# Altium schematic symbol library SCH - MCU - INFINEON - INFINEON S6E2CC9JHXXV2 LQFP-176.SchLib: 1 symbol
Pins are listed as number, name and electrical type; pins without a type are passive.

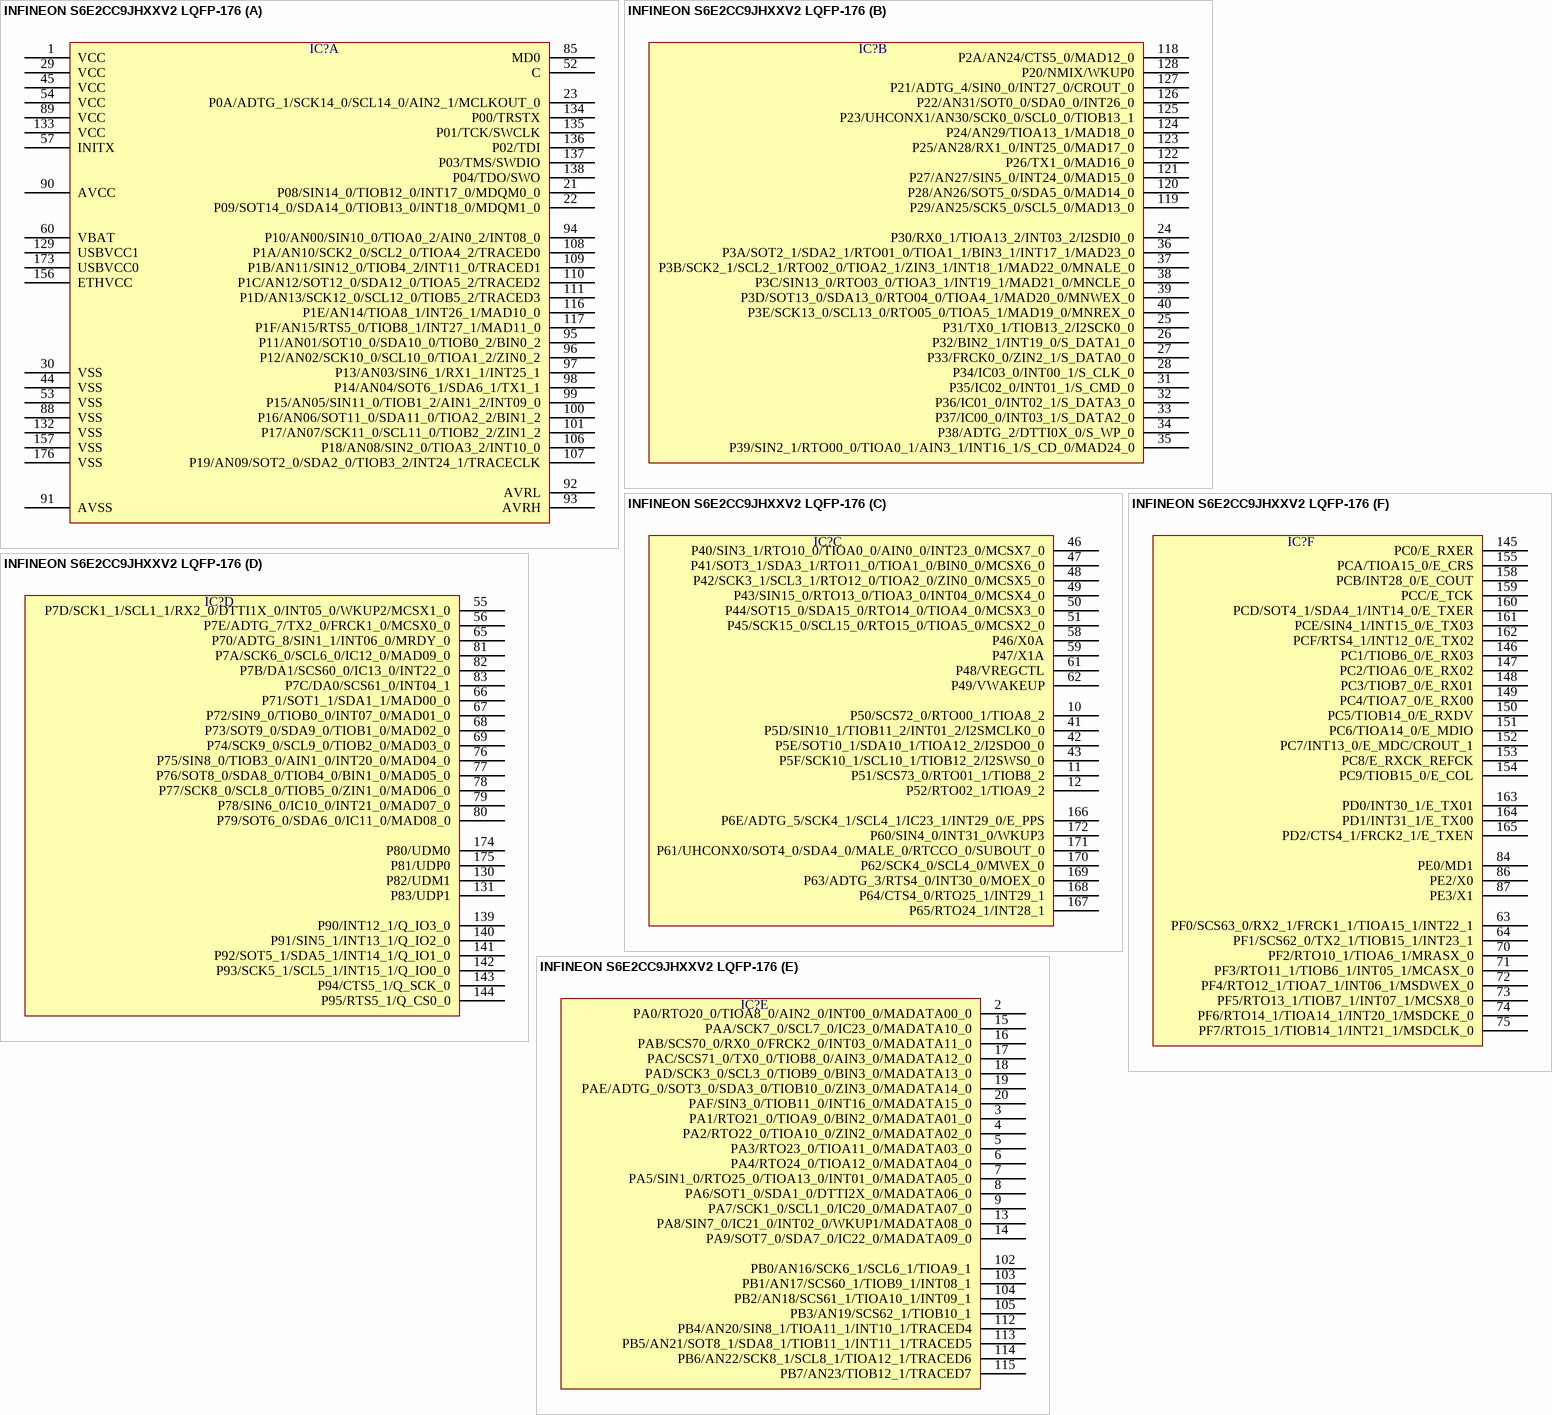
[diagram p0: symbol INFINEON S6E2CC9JHXXV2 LQFP-176]

## INFINEON S6E2CC9JHXXV2 LQFP-176
designator IC?  (value not drawn)
part A pins: 1 VCC, 21 P08/SIN14_0/TIOB12_0/INT17_0/MDQM0_0, 22 P09/SOT14_0/SDA14_0/TIOB13_0/INT18_0/MDQM1_0, 23 P0A/ADTG_1/SCK14_0/SCL14_0/AIN2_1/MCLKOUT_0, 29 VCC, 30 VSS, 44 VSS, 45 VCC, 52 C, 53 VSS, 54 VCC, 57 INITX, 60 VBAT, 85 MD0, 88 VSS, 89 VCC, 90 AVCC, 91 AVSS, 92 AVRL, 93 AVRH, 94 P10/AN00/SIN10_0/TIOA0_2/AIN0_2/INT08_0, 95 P11/AN01/SOT10_0/SDA10_0/TIOB0_2/BIN0_2, 96 P12/AN02/SCK10_0/SCL10_0/TIOA1_2/ZIN0_2, 97 P13/AN03/SIN6_1/RX1_1/INT25_1, 98 P14/AN04/SOT6_1/SDA6_1/TX1_1, 99 P15/AN05/SIN11_0/TIOB1_2/AIN1_2/INT09_0, 100 P16/AN06/SOT11_0/SDA11_0/TIOA2_2/BIN1_2, 101 P17/AN07/SCK11_0/SCL11_0/TIOB2_2/ZIN1_2, 106 P18/AN08/SIN2_0/TIOA3_2/INT10_0, 107 P19/AN09/SOT2_0/SDA2_0/TIOB3_2/INT24_1/TRACECLK, 108 P1A/AN10/SCK2_0/SCL2_0/TIOA4_2/TRACED0, 109 P1B/AN11/SIN12_0/TIOB4_2/INT11_0/TRACED1, 110 P1C/AN12/SOT12_0/SDA12_0/TIOA5_2/TRACED2, 111 P1D/AN13/SCK12_0/SCL12_0/TIOB5_2/TRACED3, 116 P1E/AN14/TIOA8_1/INT26_1/MAD10_0, 117 P1F/AN15/RTS5_0/TIOB8_1/INT27_1/MAD11_0, 129 USBVCC1, 132 VSS, 133 VCC, 134 P00/TRSTX, 135 P01/TCK/SWCLK, 136 P02/TDI, 137 P03/TMS/SWDIO, 138 P04/TDO/SWO, 156 ETHVCC, 157 VSS, 173 USBVCC0, 176 VSS
part B pins: 24 P30/RX0_1/TIOA13_2/INT03_2/I2SDI0_0, 25 P31/TX0_1/TIOB13_2/I2SCK0_0, 26 P32/BIN2_1/INT19_0/S_DATA1_0, 27 P33/FRCK0_0/ZIN2_1/S_DATA0_0, 28 P34/IC03_0/INT00_1/S_CLK_0, 31 P35/IC02_0/INT01_1/S_CMD_0, 32 P36/IC01_0/INT02_1/S_DATA3_0, 33 P37/IC00_0/INT03_1/S_DATA2_0, 34 P38/ADTG_2/DTTI0X_0/S_WP_0, 35 P39/SIN2_1/RTO00_0/TIOA0_1/AIN3_1/INT16_1/S_CD_0/MAD24_0, 36 P3A/SOT2_1/SDA2_1/RTO01_0/TIOA1_1/BIN3_1/INT17_1/MAD23_0, 37 P3B/SCK2_1/SCL2_1/RTO02_0/TIOA2_1/ZIN3_1/INT18_1/MAD22_0/MNALE_0, 38 P3C/SIN13_0/RTO03_0/TIOA3_1/INT19_1/MAD21_0/MNCLE_0, 39 P3D/SOT13_0/SDA13_0/RTO04_0/TIOA4_1/MAD20_0/MNWEX_0, 40 P3E/SCK13_0/SCL13_0/RTO05_0/TIOA5_1/MAD19_0/MNREX_0, 118 P2A/AN24/CTS5_0/MAD12_0, 119 P29/AN25/SCK5_0/SCL5_0/MAD13_0, 120 P28/AN26/SOT5_0/SDA5_0/MAD14_0, 121 P27/AN27/SIN5_0/INT24_0/MAD15_0, 122 P26/TX1_0/MAD16_0, 123 P25/AN28/RX1_0/INT25_0/MAD17_0, 124 P24/AN29/TIOA13_1/MAD18_0, 125 P23/UHCONX1/AN30/SCK0_0/SCL0_0/TIOB13_1, 126 P22/AN31/SOT0_0/SDA0_0/INT26_0, 127 P21/ADTG_4/SIN0_0/INT27_0/CROUT_0, 128 P20/NMIX/WKUP0
part C pins: 10 P50/SCS72_0/RTO00_1/TIOA8_2, 11 P51/SCS73_0/RTO01_1/TIOB8_2, 12 P52/RTO02_1/TIOA9_2, 41 P5D/SIN10_1/TIOB11_2/INT01_2/I2SMCLK0_0, 42 P5E/SOT10_1/SDA10_1/TIOA12_2/I2SDO0_0, 43 P5F/SCK10_1/SCL10_1/TIOB12_2/I2SWS0_0, 46 P40/SIN3_1/RTO10_0/TIOA0_0/AIN0_0/INT23_0/MCSX7_0, 47 P41/SOT3_1/SDA3_1/RTO11_0/TIOA1_0/BIN0_0/MCSX6_0, 48 P42/SCK3_1/SCL3_1/RTO12_0/TIOA2_0/ZIN0_0/MCSX5_0, 49 P43/SIN15_0/RTO13_0/TIOA3_0/INT04_0/MCSX4_0, 50 P44/SOT15_0/SDA15_0/RTO14_0/TIOA4_0/MCSX3_0, 51 P45/SCK15_0/SCL15_0/RTO15_0/TIOA5_0/MCSX2_0, 58 P46/X0A, 59 P47/X1A, 61 P48/VREGCTL, 62 P49/VWAKEUP, 166 P6E/ADTG_5/SCK4_1/SCL4_1/IC23_1/INT29_0/E_PPS, 167 P65/RTO24_1/INT28_1, 168 P64/CTS4_0/RTO25_1/INT29_1, 169 P63/ADTG_3/RTS4_0/INT30_0/MOEX_0, 170 P62/SCK4_0/SCL4_0/MWEX_0, 171 P61/UHCONX0/SOT4_0/SDA4_0/MALE_0/RTCCO_0/SUBOUT_0, 172 P60/SIN4_0/INT31_0/WKUP3
part D pins: 55 P7D/SCK1_1/SCL1_1/RX2_0/DTTI1X_0/INT05_0/WKUP2/MCSX1_0, 56 P7E/ADTG_7/TX2_0/FRCK1_0/MCSX0_0, 65 P70/ADTG_8/SIN1_1/INT06_0/MRDY_0, 66 P71/SOT1_1/SDA1_1/MAD00_0, 67 P72/SIN9_0/TIOB0_0/INT07_0/MAD01_0, 68 P73/SOT9_0/SDA9_0/TIOB1_0/MAD02_0, 69 P74/SCK9_0/SCL9_0/TIOB2_0/MAD03_0, 76 P75/SIN8_0/TIOB3_0/AIN1_0/INT20_0/MAD04_0, 77 P76/SOT8_0/SDA8_0/TIOB4_0/BIN1_0/MAD05_0, 78 P77/SCK8_0/SCL8_0/TIOB5_0/ZIN1_0/MAD06_0, 79 P78/SIN6_0/IC10_0/INT21_0/MAD07_0, 80 P79/SOT6_0/SDA6_0/IC11_0/MAD08_0, 81 P7A/SCK6_0/SCL6_0/IC12_0/MAD09_0, 82 P7B/DA1/SCS60_0/IC13_0/INT22_0, 83 P7C/DA0/SCS61_0/INT04_1, 130 P82/UDM1, 131 P83/UDP1, 139 P90/INT12_1/Q_IO3_0, 140 P91/SIN5_1/INT13_1/Q_IO2_0, 141 P92/SOT5_1/SDA5_1/INT14_1/Q_IO1_0, 142 P93/SCK5_1/SCL5_1/INT15_1/Q_IO0_0, 143 P94/CTS5_1/Q_SCK_0, 144 P95/RTS5_1/Q_CS0_0, 174 P80/UDM0, 175 P81/UDP0
part E pins: 2 PA0/RTO20_0/TIOA8_0/AIN2_0/INT00_0/MADATA00_0, 3 PA1/RTO21_0/TIOA9_0/BIN2_0/MADATA01_0, 4 PA2/RTO22_0/TIOA10_0/ZIN2_0/MADATA02_0, 5 PA3/RTO23_0/TIOA11_0/MADATA03_0, 6 PA4/RTO24_0/TIOA12_0/MADATA04_0, 7 PA5/SIN1_0/RTO25_0/TIOA13_0/INT01_0/MADATA05_0, 8 PA6/SOT1_0/SDA1_0/DTTI2X_0/MADATA06_0, 9 PA7/SCK1_0/SCL1_0/IC20_0/MADATA07_0, 13 PA8/SIN7_0/IC21_0/INT02_0/WKUP1/MADATA08_0, 14 PA9/SOT7_0/SDA7_0/IC22_0/MADATA09_0, 15 PAA/SCK7_0/SCL7_0/IC23_0/MADATA10_0, 16 PAB/SCS70_0/RX0_0/FRCK2_0/INT03_0/MADATA11_0, 17 PAC/SCS71_0/TX0_0/TIOB8_0/AIN3_0/MADATA12_0, 18 PAD/SCK3_0/SCL3_0/TIOB9_0/BIN3_0/MADATA13_0, 19 PAE/ADTG_0/SOT3_0/SDA3_0/TIOB10_0/ZIN3_0/MADATA14_0, 20 PAF/SIN3_0/TIOB11_0/INT16_0/MADATA15_0, 102 PB0/AN16/SCK6_1/SCL6_1/TIOA9_1, 103 PB1/AN17/SCS60_1/TIOB9_1/INT08_1, 104 PB2/AN18/SCS61_1/TIOA10_1/INT09_1, 105 PB3/AN19/SCS62_1/TIOB10_1, 112 PB4/AN20/SIN8_1/TIOA11_1/INT10_1/TRACED4, 113 PB5/AN21/SOT8_1/SDA8_1/TIOB11_1/INT11_1/TRACED5, 114 PB6/AN22/SCK8_1/SCL8_1/TIOA12_1/TRACED6, 115 PB7/AN23/TIOB12_1/TRACED7
part F pins: 63 PF0/SCS63_0/RX2_1/FRCK1_1/TIOA15_1/INT22_1, 64 PF1/SCS62_0/TX2_1/TIOB15_1/INT23_1, 70 PF2/RTO10_1/TIOA6_1/MRASX_0, 71 PF3/RTO11_1/TIOB6_1/INT05_1/MCASX_0, 72 PF4/RTO12_1/TIOA7_1/INT06_1/MSDWEX_0, 73 PF5/RTO13_1/TIOB7_1/INT07_1/MCSX8_0, 74 PF6/RTO14_1/TIOA14_1/INT20_1/MSDCKE_0, 75 PF7/RTO15_1/TIOB14_1/INT21_1/MSDCLK_0, 84 PE0/MD1, 86 PE2/X0, 87 PE3/X1, 145 PC0/E_RXER, 146 PC1/TIOB6_0/E_RX03, 147 PC2/TIOA6_0/E_RX02, 148 PC3/TIOB7_0/E_RX01, 149 PC4/TIOA7_0/E_RX00, 150 PC5/TIOB14_0/E_RXDV, 151 PC6/TIOA14_0/E_MDIO, 152 PC7/INT13_0/E_MDC/CROUT_1, 153 PC8/E_RXCK_REFCK, 154 PC9/TIOB15_0/E_COL, 155 PCA/TIOA15_0/E_CRS, 158 PCB/INT28_0/E_COUT, 159 PCC/E_TCK, 160 PCD/SOT4_1/SDA4_1/INT14_0/E_TXER, 161 PCE/SIN4_1/INT15_0/E_TX03, 162 PCF/RTS4_1/INT12_0/E_TX02, 163 PD0/INT30_1/E_TX01, 164 PD1/INT31_1/E_TX00, 165 PD2/CTS4_1/FRCK2_1/E_TXEN